# EAGLE library part ARDUINO_MINI_PRO_5V (library eBay parts)
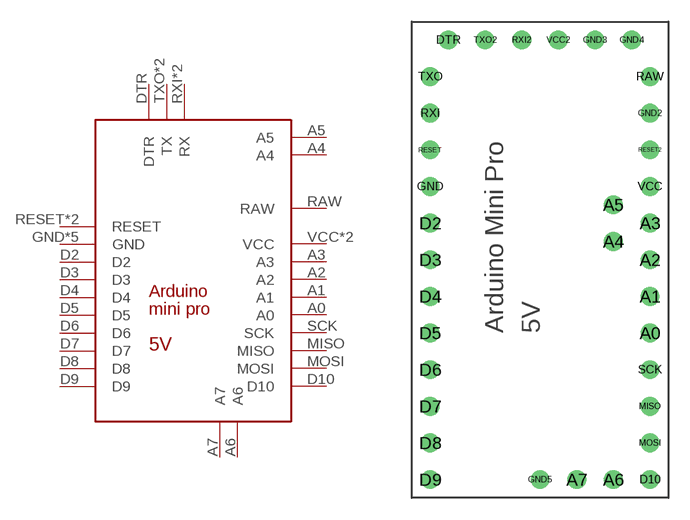
[diagram p1: symbol with the pads of ARDUINO_MINI_PRO_5V; footprint ARDUINO_MINI_PRO_5V]

Designator prefix -

## ARDUINO_MINI_PRO_5V  [ARDUINO_MINI_PRO_5V]
A0  A0
A1  A1
A2  A2
A3  A3
A4  A4
A5  A5
A6  A6
A7  A7
D2  D2
D3  D3
D4  D4
D5  D5
D6  D6
D7  D7
D8  D8
D9  D9
D10  D10
DTR  DTR
GND  GND
GND2  GND
GND3  GND
GND4  GND
GND5  GND
MISO  MISO
MOSI  MOSI
RAW  RAW
RESET  RESET
RESET2  RESET
RXI  RX
RXI2  RX
SCK  SCK
TXO  TX
TXO2  TX
VCC  VCC
VCC2  VCC

## Footprint ARDUINO_MINI_PRO_5V (pad centres in mm)
drill 0.8: A0 7.62,-5.08; A1 7.62,-2.54; A2 7.62,0; A3 7.62,2.54; A4 5.08,1.27; A5 5.08,3.81; A6 5.08,-15.24; A7 2.54,-15.24; D2 -7.62,2.54; D3 -7.62,0; D4 -7.62,-2.54; D5 -7.62,-5.08; D6 -7.62,-7.62; D7 -7.62,-10.16; D8 -7.62,-12.7; D9 -7.62,-15.24; D10 7.62,-15.24; DTR -6.35,15.24; GND -7.62,5.08; GND2 7.62,10.16; GND3 3.81,15.24; GND4 6.35,15.24; GND5 0,-15.24; MISO 7.62,-10.16; MOSI 7.62,-12.7; RAW 7.62,12.7; RESET -7.62,7.62; RESET2 7.62,7.62; RXI -7.62,10.16; RXI2 -1.27,15.24; SCK 7.62,-7.62; TXO -7.62,12.7; TXO2 -3.81,15.24; VCC 7.62,5.08; VCC2 1.27,15.24